# EAGLE library part LTC3625 (library ltc3625)
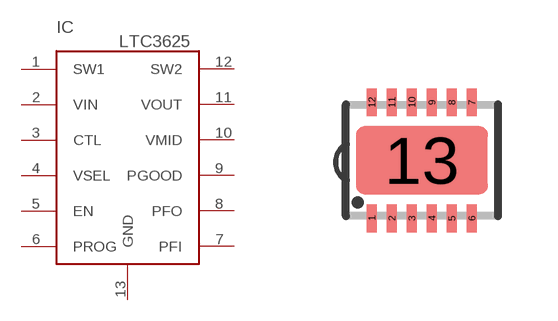
[diagram p0: symbol with the pads of DFN12(DE); footprint DFN12(DE)]

Designator prefix IC

## LTC3625EDE  [DFN12(DE)]
1  SW1
2  VIN
3  CTL
4  VSEL
5  EN
6  PROG
7  PFI
8  PFO
9  PGOOD
10  VMID
11  VOUT
12  SW2
13  GND

## Footprint DFN12(DE) (pad centres in mm)
smd 0.25 x 0.7: 1 -1.25,-1.45; 2 -0.75,-1.45; 3 -0.25,-1.45; 4 0.25,-1.45; 5 0.75,-1.45; 6 1.25,-1.45; 7 1.25,1.45; 8 0.75,1.45; 9 0.25,1.45; 10 -0.25,1.45; 11 -0.75,1.45; 12 -1.25,1.45
smd 3.3 x 1.7: 13 0,0